# Altium schematic symbol library Breathalyzer.SchLib: 6 symbols
Pins are listed as number, name and electrical type; pins without a type are passive.

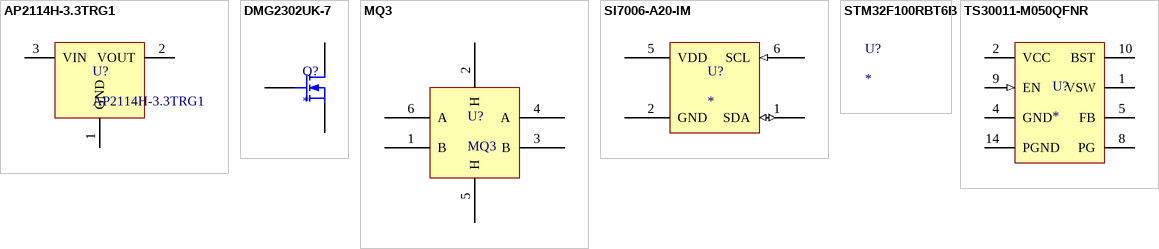
[diagram p0: symbols AP2114H-3.3TRG1 to TS30011-M050QFNR]

## AP2114H-3.3TRG1
designator U?
IC REG LDO 3.3V 1A SOT223; Manufacturer: Diodes; Number of Outputs: 1; Min Input Voltage: 2.5V; Max Input Voltage: 6V; Dropout Voltage: 450mV; Polarity: Positive; Quiescent Current: 65uA; Accuracy: 1.5%; Power Supply Rejection Ratio (PSRR): 65dB; Supplier 1: Digi-Key; Manufacturer Part Number: AP2114H-3.3TRG1; Mount: Surface Mount; Case/Package: TO-261-4; Weight: 0.000282oz; Min Operating Temperature: -40°C; Max Operating Temperature: 85°C; Packaging: Tape and Reel; Output Voltage: 3.3V; Package Quantity: 4000; Output Current: 1A; Number of Regulators: 1; Max Output Current: 1A; Length: 6.7mm; Height: 1.7mm; Width: 3.7mm; Lead Free: Lead Free; ComponentLink1URL: https://datasheet.ciiva.com/29569/ap2114-29569883.pdf; ComponentLink1Description: https://datasheet.ciiva.com/29569/ap2114-29569883.pdf; ComponentLink2URL: https://datasheet.ciiva.com/29569/ap2114-29569882.pdf; ComponentLink2Description: https://datasheet.ciiva.com/29569/ap2114-29569882.pdf; ComponentLink3URL: https://datasheet.ciiva.com/29569/ap2114-29569881.pdf; ComponentLink3Description: https://datasheet.ciiva.com/29569/ap2114-29569881.pdf; Supplier Part Number 1: AP2114H-3.3TRG1DIDKR-ND; Stock 1: 28139; Pricing 1: 1=0.36, 10=0.293, 100=0.1994, 500=0.1496, 1000=0.1122 (USD)
footprint SOT230P700X180-4N (SOT223, 4-Leads, Body 6,50x7,00mm (avg), Pitch 2,30mm, IPC Medium Density)
pins: 1 GND, 2 VOUT, 3 VIN

## DMG2302UK-7
designator Q?
MOSFET N-CH 20V 2.8A SOT23; Manufacturer: Diodes; Manufacturer Part Number: DMG2302UK-7; Rds On Max: 90mR; Input Capacitance: 130pF; Max Power Dissipation: 660mW; Supplier 1: Digi-Key; Case/Package: TO-236-3; Min Operating Temperature: -55°C; Max Operating Temperature: 150°C; Packaging: Tape and Reel; Drain to Source Voltage (Vdss): 20V; Continuous Drain Current (ID): 2.8A; Supplier Part Number 1: DMG2302UK-7DITR-ND; Stock 1: 0; Pricing 1: 3000=0.0602, 6000=0.0542, 15000=0.0482, 30000=0.0452, 75000=0.04, 150000=0.0385 (USD)
footprint SOT105P235X102-3N (SOT23, 3-Leads, Body 2,85x2,35mm, Pitch 1,05mm, IPC Medium Density)
pins: 1 D, 2 G, 3 S

## MQ3
designator U?
Alcohol sensor
footprint MQ3
pins: 1 B, 2 H, 3 B, 4 A, 5 H, 6 A

## SI7006-A20-IM
designator U?
SILICON LABS         SI7006-A20-IM             Temperature Sensor IC, Digital,  1C, -40 C, 125 C, DFN, 6 Pins; Response Time: 18s; Min Supply Voltage: 1.9V; Max Supply Voltage: 3.6V; Interface: I2C; Accuracy: 5%; Supplier 1: Digi-Key; Manufacturer: Silicon Labs; Manufacturer Part Number: SI7006-A20-IM; Mount: Surface Mount; Case/Package: DFN; Number of Pins: 6; Min Operating Temperature: -40°C; Max Operating Temperature: 125°C; Length: 3mm; Height: 0.75mm; Width: 3mm; REACH SVHC: Unknown; ComponentLink1URL: http://www.farnell.com/datasheets/1902509.pdf; ComponentLink1Description: http://www.farnell.com/datasheets/1902509.pdf; ComponentLink2URL: https://www.silabs.com/Support%20Documents%2FTechnicalDocs%2FSi7006-A20.pdf; ComponentLink2Description: https://www.silabs.com/Support%20Documents%2FTechnicalDocs%2FSi7006-A20.pdf; Supplier Part Number 1: 336-3124-ND; Stock 1: 1846; Pricing 1: 1=2.04, 25=1.8712, 100=1.701, 1000=1.5309 (USD)
footprint SON100P300X75_HS-7N (SON, 6-Leads, Body 3,00x3,00mm, Pitch 1,00mm, Thermal Pad 2,40x1,50mm, IPC Medium Density)
pins: 1 SDA (io), 2 GND (power), 5 VDD (power), 6 SCL (in)

## STM32F100RBT6B
designator U?
ARM Microcontrollers - MCU 32BIT CORTEX M3 64PINS 128KB / Learn More; Manufacturer: STMicroelectronics; Manufacturer Part Number: STM32F100RBT6B; Interface: I2C,SPI,IrDA,UART,USART,LIN; Data Bus Width: 32b; RAM Size: 8KB; Max Power Dissipation: 444mW; Number of Timers/Counters: 7; Number of Programmable I/O: 51; Max Frequency: 24MHz; Watchdog Timer: Yes; Memory Type: FLASH; Max Supply Voltage: 3.6V; Number of ADC Channels: 16; Min Supply Voltage: 2V; Oscillator Type: Internal; Peripherals: POR,PWM,WDT,DMA,Temp Sensor,I2C; Number of SPI Channels: 2; Number of PWM Channels: 6; Supplier 1: Digi-Key; Case/Package: LQFP; Number of Pins: 64; Min Operating Temperature: -40°C; Max Operating Temperature: 85°C; Package Quantity: 160; Packaging: Tray; Memory Size: 128KB; Number of I/Os: 51; Frequency: 24MHz; Number of I2C Channels: 2; Length: 10mm; Height: 1.4mm; Width: 10mm; Radiation Hardening: No; Lead Free: Lead Free; REACH SVHC: No SVHC; ComponentLink1URL: https://datasheet.ciiva.com/5752/cd00251732-5752752.pdf; ComponentLink1Description: https://datasheet.ciiva.com/5752/cd00251732-5752752.pdf; ComponentLink2URL: https://datasheet.ciiva.com/16290/cd00251732-16290216.pdf; ComponentLink2Description: https://datasheet.ciiva.com/16290/cd00251732-16290216.pdf; ComponentLink3URL: https://datasheet.ciiva.com/8054/1690143-8054903.pdf; ComponentLink3Description: https://datasheet.ciiva.com/8054/1690143-8054903.pdf; Supplier Part Number 1: 497-10494-ND; Stock 1: 5062; Pricing 1: 1=4.53, 10=4.07, 100=3.3345, 500=2.8386, 1000=2.394 (USD)

## TS30011-M050QFNR
designator U?
Voltage Regulators - Switching Regulators IC Hi-Eff 1Amp DC/DC Conv 1MHz 5V Outpt; Manufacturer: Triune Systems; Manufacturer Part Number: TS30011-M050QFNR; Max Input Voltage: 24V; Output Current: 1A; Min Input Voltage: 6V; Number of Outputs: 1; Efficiency: 95%; Supplier 1: Digi-Key; Mount: Surface Mount; Case/Package: DFN EP; Number of Pins: 16; Min Operating Temperature: -40°C; Max Operating Temperature: 125°C; Packaging: Tape and Reel; Switching Frequency: 1MHz; Output Voltage: 5V; Package Quantity: 1000; Radiation Hardening: No; ComponentLink1URL: https://datasheet.ciiva.com/15191/getdatasheetpartid-720917-15191587.pdf; ComponentLink1Description: https://datasheet.ciiva.com/15191/getdatasheetpartid-720917-15191587.pdf; Supplier Part Number 1: TS30011-M050QFNRDKR-ND; Stock 1: 9394; Pricing 1: 1=1.08, 10=0.958, 25=0.8652, 100=0.7571, 250=0.6644, 500=0.5871, 1000=0.4635 (USD)
footprint QFN50P300X300X100_HS-17N (QFN, 16-Leads, Body 3,00x3,00mm, Pitch 0,50mm, Thermal Pad 1,68x1,68mm, IPC Medium Density)
pins: 1 VSW, 2 VCC (power), 3 VCC (power) hidden, 4 GND (power), 5 FB, 8 PG, 9 EN (in), 10 BST, 11 VCC (power) hidden, 12 VSW hidden, 13 VSW hidden, 14 PGND (power), 15 PGND (power) hidden, 16 VSW hidden